# EAGLE library part SIM_HOLDER-MICRO-PUSH (library custom)
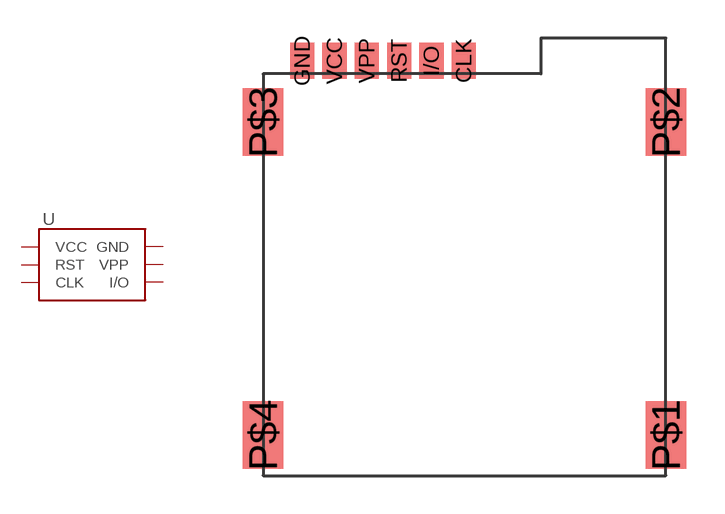
[diagram p2: symbol with the pads of SIM_HOLDER-MICRO-PUSH; footprint SIM_HOLDER-MICRO-PUSH]

Designator prefix U

## SIM_HOLDER-MICRO-PUSH  [SIM_HOLDER-MICRO-PUSH]
CLK  CLK  in
GND  GND  pwr
I/O  I/O
RST  RST  in
VCC  VCC  pwr
VPP  VPP  in

## Footprint SIM_HOLDER-MICRO-PUSH (pad centres in mm)
smd 0.95 x 1.4: CLK 7.89,16.31; GND 1.54,16.31; I/O 6.62,16.31; RST 5.35,16.31; VCC 2.81,16.31; VPP 4.08,16.31
smd 1.6 x 2.65: P$1 15.84,1.6; P$2 15.84,13.9; P$3 0,13.9; P$4 0,1.6